# Altium schematic symbol library title_blocks.SchLib: 1 symbol
Pins are listed as number, name and electrical type; pins without a type are passive.

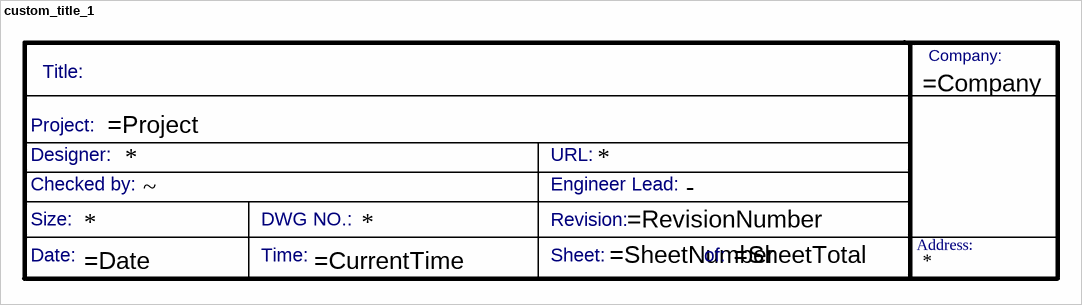
[diagram p0: symbol custom_title_1]

## custom_title_1
designator *  Checked by: ~  (hidden comment: *)  (graphical)
custom TITLE personal; Designer URL: *; Address 1: *; DWG NO.:: *; Size: *; Engineer Lead: -; Designer: *
text: Company:; Title:; Project:; URL:; Designer:; Checked by:; Engineer Lead:; Revision:; Size:; DWG NO.:; Date:; Time:; Sheet:; of:; Address: